# Altium schematic symbol library MOSFET.SchLib: 2 symbols
Pins are listed as number, name and electrical type; pins without a type are passive.

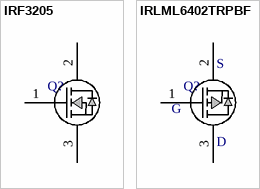
[diagram p0: symbols IRF3205 to IRLML6402TRPBF]

## IRF3205
designator Q?
N-Channel 55V 110A (Tc) 200W (Tc) Through Hole TO-220AB
footprint TO220AB
pins: 1 G, 2 D, 3 S

## IRLML6402TRPBF
designator Q?
P-Channel 20V 3.7A (Ta) 1.3W (Ta) Surface Mount Micro3™/SOT-23
footprint SOT23_NEX
pins: 1 G, 2 S, 3 D